# EAGLE library part K-HEADER-MALE-1X12- (library elpp-v1.1)
PIN HEADER
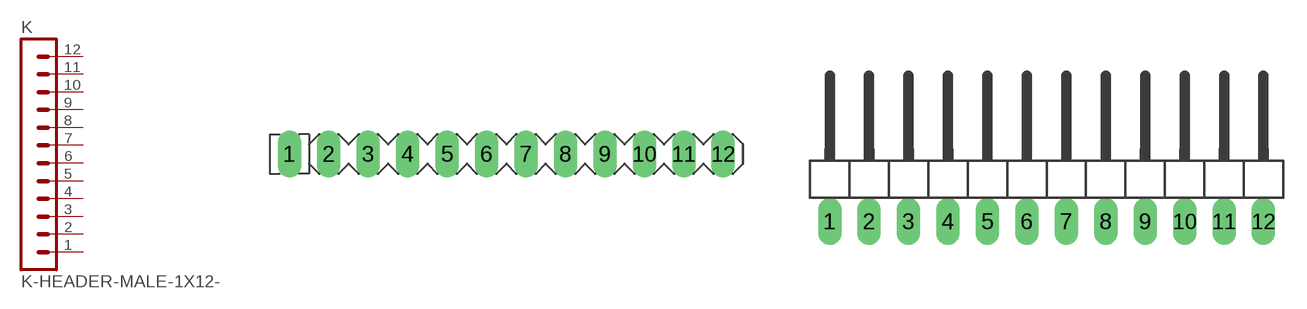
[diagram p13: symbol with the pads of EPP-SIL-M-12-WAY; footprints EPP-SIL-M-12-WAY, EPP-SIL-M-12-WAY-90DEG]

Designator prefix K

## K-HEADER-MALE-1X12-V (FARNELL: 1098454; RS: 6812058)  [EPP-SIL-M-12-WAY]
1  1  pas
2  2  pas
3  3  pas
4  4  pas
5  5  pas
6  6  pas
7  7  pas
8  8  pas
9  9  pas
10  10  pas
11  11  pas
12  12  pas

## K-HEADER-MALE-1X12-H (FARNELL: 1098476; RS: 6812060)  [EPP-SIL-M-12-WAY-90DEG]
Pads as for EPP-SIL-M-12-WAY

## Footprint EPP-SIL-M-12-WAY (pad centres in mm)
PIN HEADER, 12-way
drill 1 long: 1 -5.08,0; 2 -2.54,0; 3 0,0; 4 2.54,0; 5 5.08,0; 6 7.62,0; 7 10.16,0; 8 12.7,0; 9 15.24,0; 10 17.78,0; 11 20.32,0; 12 22.86,0

## Footprint EPP-SIL-M-12-WAY-90DEG (pad centres in mm)
PIN HEADER, 1 row, 90 degrees
drill 1 long: 1 -13.97,0; 2 -11.43,0; 3 -8.89,0; 4 -6.35,0; 5 -3.81,0; 6 -1.27,0; 7 1.27,0; 8 3.81,0; 9 6.35,0; 10 8.89,0; 11 11.43,0; 12 13.97,0